# Altium footprint library microlab.PcbLib: 10 footprints
Each footprint in its own frame and in the unit in brackets; x right, y up, seen from the top. Pads: shape width x height; smd on the part's side, far side on the other; paste and mask are expansions set on the pad; w line width, h text height; cw(c..) or ccw(c..) is an arc to the next point about the centre after c.
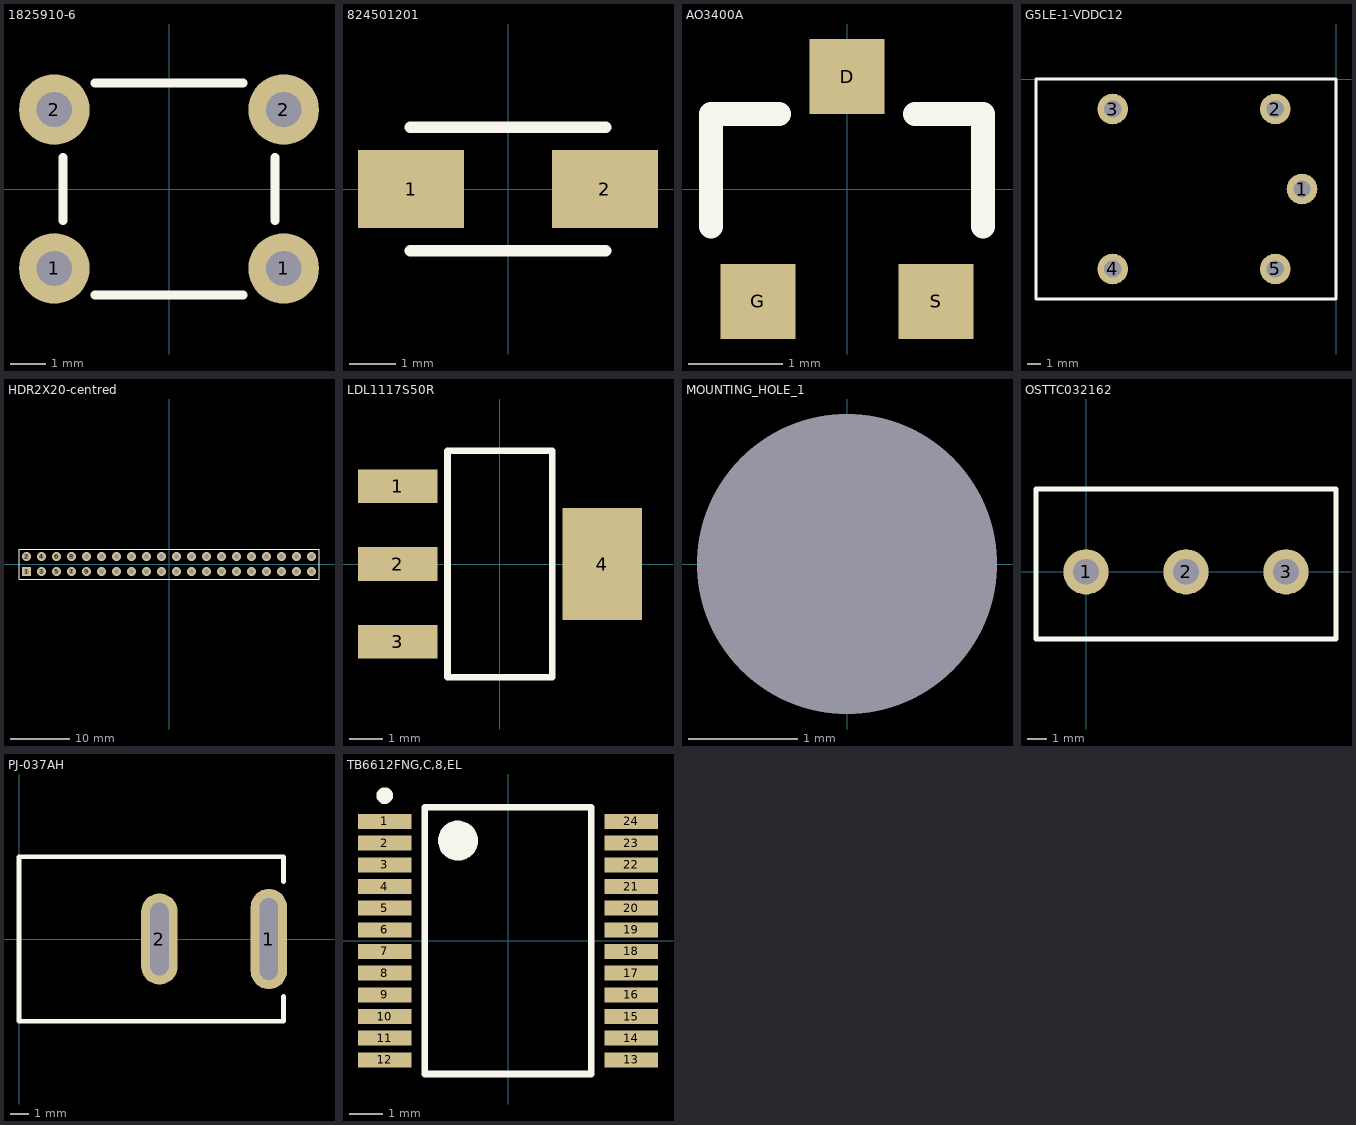
[diagram p0: the footprints below, top view; thin cyan lines are the x and y axes]

## 1825910-6 [mm] "1825910-6"
height 5
pads (4):
  round 2 hole 1: 1(-3.25,-2.25) 1(3.25,-2.25) 2(-3.25,2.25) 2(3.25,2.25)
Top Overlay:
  lines w0.254: -3,-0.9 -3,0.9 ; -2.1,-3 2.1,-3 ; -2.1,3 2.1,3 ; 3,-0.9 3,0.9
3D body: height 5, standoff 0.1, extent -3,-3 3,3

## 824501201 [mm] "DO-214AC"
height 2.25
pads (2):
  rect 2.3x1.7 smd: 1(-2.1,0) 2(2.1,0)
Top Overlay:
  lines w0.254: -2.12,-1.335 2.12,-1.335 ; -2.12,1.335 2.12,1.335
3D body: height 2.25, standoff 0.11, extent -2.12,-1.335 2.12,1.335

## AO3400A [mm] "SOT-23-3L"
height 1.25
pads (3):
  rect 0.8x0.8 smd: D(0,1.2) G(-0.95,-1.2) S(0.95,-1.2)
Top Overlay:
  lines w0.254: -1.45,-0.4 -1.45,0.8 -0.725,0.8 ; 0.725,0.8 1.45,0.8 1.45,-0.4
3D body: height 1.25, standoff 0.13, extent -1.45,-0.8 1.45,0.8

## G5LE-1-VDDC12 [mm] "SPDT (1c)"
height 19
pads (5):
  round 2.3 hole 1.3: 1(-2.55,-8.25) 2(-4.55,-2.25) 3(-16.75,-2.25) 4(-16.75,-14.25) 5(-4.55,-14.25)
Top Overlay:
  lines w0.254: -22.5,-16.5 -22.5,0 0,0 0,-16.5 -22.5,-16.5
3D body: height 19, standoff 0.5, extent -22.5,-16.5 0,0

## HDR2X20-centred [mm] "Origin moved - Connector; Header; 20x2 Position"
pads (40):
  rect 1.5x1.5 hole 0.9: 1(-24.13,-1.27)
  round 1.5 hole 0.9: 2(-24.13,1.27) 3(-21.59,-1.27) 4(-21.59,1.27) 5(-19.05,-1.27) 6(-19.05,1.27) 7(-16.51,-1.27) 8(-16.51,1.27) 9(-13.97,-1.27) 10(-13.97,1.27) 11(-11.43,-1.27) 12(-11.43,1.27) 13(-8.89,-1.27) 14(-8.89,1.27) 15(-6.35,-1.27) 16(-6.35,1.27) 17(-3.81,-1.27) 18(-3.81,1.27) 19(-1.27,-1.27) 20(-1.27,1.27) 21(1.27,-1.27) 22(1.27,1.27) 23(3.81,-1.27) 24(3.81,1.27) 25(6.35,-1.27) 26(6.35,1.27) 27(8.89,-1.27) 28(8.89,1.27) 29(11.43,-1.27) 30(11.43,1.27) 31(13.97,-1.27) 32(13.97,1.27) 33(16.51,-1.27) 34(16.51,1.27) 35(19.05,-1.27) 36(19.05,1.27) 37(21.59,-1.27) 38(21.59,1.27) 39(24.13,-1.27) 40(24.13,1.27)
Top Overlay:
  lines w0.2: -25.4,-2.54 -25.4,2.54 25.4,2.54 25.4,-2.54 -25.4,-2.54

## LDL1117S50R [mm] "SOT-223"
height 1.8
pads (4):
  rect 2.35x1 smd: 1(-3.025,2.3) 2(-3.025,0) 3(-3.025,-2.3)
  rect 2.35x3.3 smd: 4(3.025,0)
Top Overlay:
  lines w0.2: -1.55,-3.35 -1.55,3.35 1.55,3.35 1.55,-3.35 -1.55,-3.35
3D body: height 1.8, standoff 0.02, extent -1.85,-3.35 1.85,3.35

## MOUNTING_HOLE_1 [mm] "RPi Zero W M2.5 Mounting hole 2.75 drill"
pads (1):
  round 0 hole 2.75 unplated mask+3: ""(0,0)

## OSTTC032162 [mm] "OSTTC032162"
height 10
pads (3):
  round 2.3 hole 1.3: 1(0,0) 2(5.08,0) 3(10.16,0)
Top Overlay:
  lines w0.254: -2.54,-3.4 -2.54,4.2 12.7,4.2 12.7,-3.4 -2.54,-3.4
3D body: height 10, standoff 0.1, extent -2.54,-3.4 12.7,4.2

## PJ-037AH [mm] "PJ-037AH"
height 11
pads (2):
  oval 2x5.5 hole 1 slot 4.5 at 90 deg: 1(13.7,0)
  oval 2x5 hole 1 slot 4 at 90 deg: 2(7.7,0)
Top Overlay:
  lines w0.254: 14.5,-3.15 14.5,-4.5 0,-4.5 0,4.5 14.5,4.5 14.5,3.15
3D body: height 11, standoff 0.1, extent 0,-4.5 14.5,4.5

## TB6612FNG,C,8,EL [mm] "24-SSOP"
height 1.6
pads (24):
  rect 1.6x0.45 smd: 1(-3.7,3.575) 2(-3.7,2.925) 3(-3.7,2.275) 4(-3.7,1.625) 5(-3.7,0.975) 6(-3.7,0.325) 7(-3.7,-0.325) 8(-3.7,-0.975) 9(-3.7,-1.625) 10(-3.7,-2.275) 11(-3.7,-2.925) 12(-3.7,-3.575) 13(3.7,-3.575) 14(3.7,-2.925) 15(3.7,-2.275) 16(3.7,-1.625) 17(3.7,-0.975) 18(3.7,-0.325) 19(3.7,0.325) 20(3.7,0.975) 21(3.7,1.625) 22(3.7,2.275) 23(3.7,2.925) 24(3.7,3.575)
Top Overlay:
  circle w0.25: c-3.7,4.35 r0.125
  circle w0.6: c-1.5,3 r0.3
  lines w0.2: -2.5,-4 -2.5,4 2.5,4 2.5,-4 -2.5,-4
3D body: height 1.6, standoff 0.1, extent -2.9,-4 2.9,4